# Altium schematic symbol library SKRPABE010.SchLib: 1 symbol
Pins are listed as number, name and electrical type; pins without a type are passive.

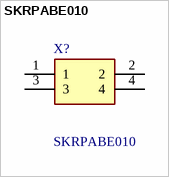
[diagram p0: symbol SKRPABE010]

## SKRPABE010
designator X?
Switch Tactile N.O. SPST Button J-Bend 0.05A 16VDC 1.57N SMD Automotive T/R; Manufacturer_Name: ALPS Electric; Geometry.Height: 2.5mm; Mouser Part Number: 688-SKRPAB; Mouser Price/Stock: https://www.mouser.co.uk/ProductDetail/Alps-Alpine/SKRPABE010?qs=m0BA540hBPe1GpcSf%2FZ5Yw%3D%3D; Manufacturer_Part_Number: SKRPABE010; Datasheet Link: https://tech.alpsalpine.com/e/products/detail/SKRPABE010/
footprint SKRPABE010
pins: 1, 2, 3, 4